# EAGLE library part MCP4231 (library microchip-digital-potentiometer)
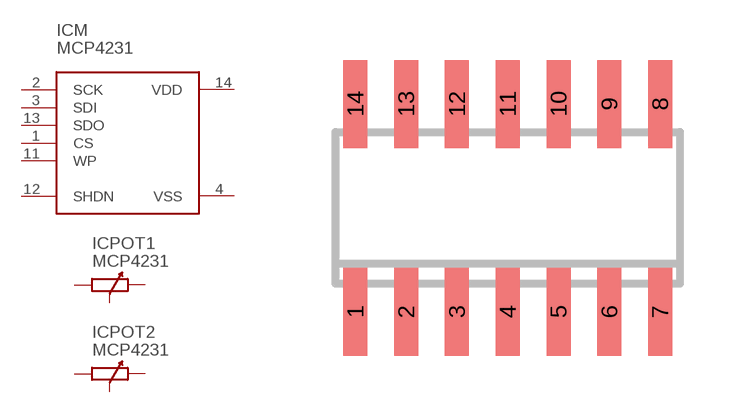
[diagram p0: symbol with the pads of SO14; footprint SO14]

Designator prefix IC; gates M=MCP4231 POT1=POT POT2=POT

## MCP4231  [SO14]
1  M:CS
2  M:SCK
3  M:SDI
4  M:VSS
5  POT1:B
6  POT1:W
7  POT1:A
8  POT2:A
9  POT2:W
10  POT2:B
11  M:WP
12  M:SHDN
13  M:SDO
14  M:VDD

## Footprint SO14 (pad centres in mm)
SMALL OUTLINE INTEGRATED CIRCUIT body 3.9 mm/JEDEC MS-012AC
smd 0.6 x 2.2: 1 -3.81,-2.6; 2 -2.54,-2.6; 3 -1.27,-2.6; 4 0,-2.6; 5 1.27,-2.6; 6 2.54,-2.6; 7 3.81,-2.6; 8 3.81,2.6; 9 2.54,2.6; 10 1.27,2.6; 11 0,2.6; 12 -1.27,2.6; 13 -2.54,2.6; 14 -3.81,2.6